# Altium schematic symbol library KNX-RELAY-8CH_V2.SchLib: 12 symbols
Pins are listed as number, name and electrical type; pins without a type are passive.

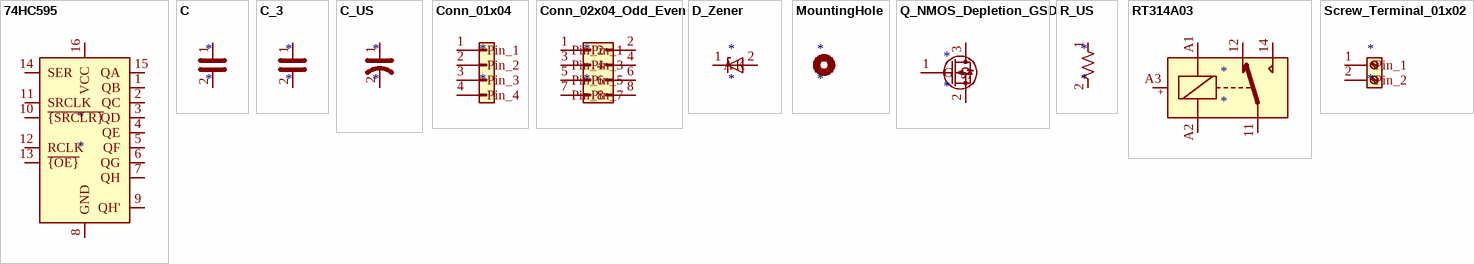
[diagram p0: symbols 74HC595 to Screw_Terminal_01x02]

## 74HC595
designator *
pins: 1 QB, 2 QC, 3 QD, 4 QE, 5 QF, 6 QG, 7 QH, 8 GND, 9 QH', 10 ~{{SRCLR}}, 11 SRCLK, 12 RCLK, 13 ~{{OE}}, 14 SER, 15 QA, 16 VCC

## C
designator *
pins: 1, 2

## C_3
designator *
pins: 1, 2

## C_US
designator *
pins: 1, 2

## Conn_01x04
designator *
pins: 1 Pin_1, 2 Pin_2, 3 Pin_3, 4 Pin_4

## Conn_02x04_Odd_Even
designator *
pins: 1 Pin_1, 2 Pin_2, 3 Pin_3, 4 Pin_4, 5 Pin_5, 6 Pin_6, 7 Pin_7, 8 Pin_8

## D_Zener
designator *
pins: 1 K, 2 A

## MountingHole
designator *

## Q_NMOS_Depletion_GSD
designator *
pins: 1 G, 2 S, 3 D

## R_US
designator *
pins: 1, 2

## RT314A03
designator *
pins: 11, 12, 14, A1, A2, A3
text: +

## Screw_Terminal_01x02
designator *
pins: 1 Pin_1, 2 Pin_2